# Altium integrated library 0154007.DR.IntLib: 1 symbol
Pins are listed as number, name and electrical type; pins without a type are passive.

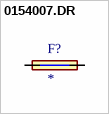
[diagram p0: symbol 0154007.DR]

## 0154007.DR
designator F?
7 A 125 V AC 125 V DC Fuse Board Mount (Cartridge Style Excluded) Requires Holder, Surface Mount 2-SMD, Square End Block with Holder; MF: Littelfuse Inc.; MP: 0154007.DR; Package: SMD-2 Littelfuse; Price: None; Check_prices: https://www.snapeda.com/parts/0154007.DR/Littelfuse+Inc./view-part/?ref=eda; Value: *; SnapEDA_Link: https://www.snapeda.com/parts/0154007.DR/Littelfuse+Inc./view-part/?ref=snap; Availability: In Stock; Purchase-URL: https://pricing.snapeda.com/search?q=0154007.DR&ref=eda
footprint 0154007.DR
pins: 1, 2